# EAGLE library part LSM9DS1TR (library Accelerometers)
iNEMO Inertial 3D Accel/Gyro/Magn. LGA24 STMicroelectronics LSM9DS1TR 3-Axis Accelerometer, Gyroscope & Magnetometer, 0 400 kHz, 1.9 3.6 V Source: Datasheet <http://www.st.com/content/ccc/resource/technical/document/datasheet/1e/3f/2a/d6/25/eb/48/46/DM00103319.pdf/files/DM00103319.pdf/jcr:content/translations/en.DM00103319.pdf>
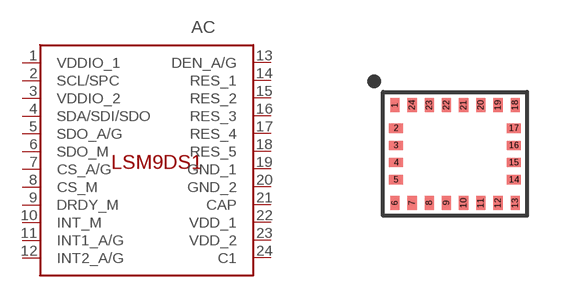
[diagram p3: symbol with the pads of LGA-24L(3X3.5X1MM); footprint LGA-24L(3X3.5X1MM)]

Designator prefix AC

## LSM9DS1TR (DESCRIPTION: iNEMO Inertial 3D Accel/Gyro/Magn. LGA24 STMicroelectronics LSM9DS1TR 3-Axis Accelerometer, Gyroscope & Magnetometer, 0 400 kHz, 1.9 3.6 V; HEIGHT: mm; MANUFACTURER_NAME: STMicroelectronics; MANUFACTURER_PART_NUMBER: LSM9DS1TR; MOUSER_PART_NUMBER: 511-LSM9DS1TR; MOUSER_PRICE-STOCK: https://www.mouser.co.uk/ProductDetail/STMicroelectronics/LSM9DS1TR?qs=4b8myOmUP%252BsiwRDrJOMxKQ%3D%3D)  [LGA-24L(3X3.5X1MM)]
1  VDDIO_1  pwr
2  SCL/SPC  out
3  VDDIO_2  pwr
4  SDA/SDI/SDO
5  SDO_A/G  out
6  SDO_M  out
7  CS_A/G
8  CS_M
9  DRDY_M
10  INT_M
11  INT1_A/G
12  INT2_A/G
13  DEN_A/G
14  RES_1  pwr
15  RES_2  pwr
16  RES_3  pwr
17  RES_4  pwr
18  RES_5  pwr
19  GND_1  pwr
20  GND_2  pwr
21  CAP  pwr
22  VDD_1  pwr
23  VDD_2  pwr
24  C1

## Footprint LGA-24L(3X3.5X1MM) (pad centres in mm)
LGA-24L (3x3.5x1 mm)
smd 0.23 x 0.35: 1 -1.505,1.225; 6 -1.505,-1.225; 7 -1.075,-1.225; 8 -0.645,-1.225; 9 -0.215,-1.225; 10 0.215,-1.225; 11 0.645,-1.225; 12 1.075,-1.225; 13 1.505,-1.225; 18 1.505,1.225; 19 1.075,1.225; 20 0.645,1.225; 21 0.215,1.225; 22 -0.215,1.225; 23 -0.645,1.225; 24 -1.075,1.225
smd 0.35 x 0.23: 2 -1.475,0.645; 3 -1.475,0.215; 4 -1.475,-0.215; 5 -1.475,-0.645; 14 1.475,-0.645; 15 1.475,-0.215; 16 1.475,0.215; 17 1.475,0.645